# Altium integrated library Altium_WL-SMRW_rev20a.IntLib: 29 symbols
Pins are listed as number, name and electrical type; pins without a type are passive.

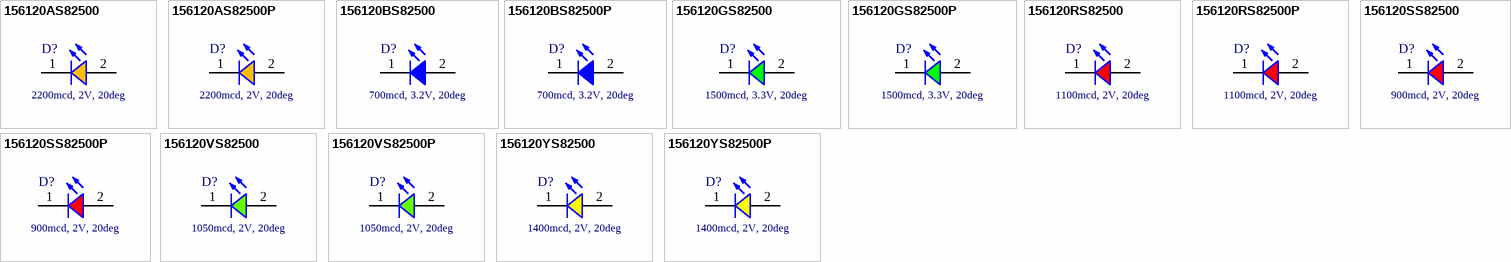
[diagram p0: symbols 156120AS82500 to 156120YS82500P]

## 156120AS82500
designator D?, comment 2200mcd, 2V, 20deg
WL-SMRW SMT Mono-color Reverse mount Waterclear, size 1206, Amber, 2200mcd, 2V, 20deg; Manufacturer Part Number: 156120AS82500; Peak Wavelength typ.: 609nm; Dominant Wavelength typ.: 605nm; Chip Technology: AlInGaP; ComponentLink1Description: Manufacturer; ComponentLink1URL: http://www.we-online.de; ComponentLink2Description: Datasheet; ComponentLink2URL: https://www.we-online.com/catalog/datasheet/156120AS82500.pdf; Published Date: March 2020; Publisher: Wurth Elektronik; Forward Voltage typ.: 2V; Size: 1206; Operating Temperature: -40 to +85degC; Packaging: Tape and Reel; Luminous Intensity typ.: 2200mcd; Emitting Color: Amber; Mounting Technology: SMT; Viewing Angle typ.: 20deg
footprint WL-SMRW_1206_dome_normal use
footprint WL-SMRW_1206_dome_reverse use
pins: 1 K, 2 A

## 156120AS82500P
designator D?, comment 2200mcd, 2V, 20deg
WL-SMRW SMT Mono-color Reverse mount Waterclear, size 1206, Amber, 2200mcd, 2V, 20deg; Manufacturer Part Number: 156120AS82500P; Peak Wavelength typ.: 609nm; Dominant Wavelength typ.: 605nm; Chip Technology: AlInGaP; ComponentLink1Description: Manufacturer; ComponentLink1URL: http://www.we-online.de; ComponentLink2Description: Datasheet; ComponentLink2URL: https://www.we-online.com/catalog/datasheet/156120AS82500P.pdf; Published Date: March 2020; Publisher: Wurth Elektronik; Forward Voltage typ.: 2V; Size: 1206; Operating Temperature: -40 to +85degC; Packaging: Tape and Reel; Luminous Intensity typ.: 2200mcd; Emitting Color: Amber; Mounting Technology: SMT; Viewing Angle typ.: 20deg
footprint WL-SMRW_1206_dome_normal use
footprint WL-SMRW_1206_dome_reverse use
pins: 1 K, 2 A

## 156120BS82500
designator D?, comment 700mcd, 3.2V, 20deg
WL-SMRW SMT Mono-color Reverse mount Waterclear, size 1206, Blue, 700mcd, 3.2V, 20deg; Manufacturer Part Number: 156120BS82500; Peak Wavelength typ.: 465nm; Dominant Wavelength typ.: 470nm; Chip Technology: InGaN; ComponentLink1Description: Manufacturer; ComponentLink1URL: http://www.we-online.de; ComponentLink2Description: Datasheet; ComponentLink2URL: https://www.we-online.com/catalog/datasheet/156120BS82500.pdf; Published Date: March 2020; Publisher: Wurth Elektronik; Forward Voltage typ.: 3.2V; Size: 1206; Operating Temperature: -40 to +85degC; Packaging: Tape and Reel; Luminous Intensity typ.: 700mcd; Emitting Color: Blue; Mounting Technology: SMT; Viewing Angle typ.: 20deg
footprint WL-SMRW_1206_dome_normal use
footprint WL-SMRW_1206_dome_reverse use
pins: 1 K, 2 A

## 156120BS82500P
designator D?, comment 700mcd, 3.2V, 20deg
WL-SMRW SMT Mono-color Reverse mount Waterclear, size 1206, Blue, 700mcd, 3.2V, 20deg; Manufacturer Part Number: 156120BS82500P; Peak Wavelength typ.: 465nm; Dominant Wavelength typ.: 470nm; Chip Technology: InGaN; ComponentLink1Description: Manufacturer; ComponentLink1URL: http://www.we-online.de; ComponentLink2Description: Datasheet; ComponentLink2URL: https://www.we-online.com/catalog/datasheet/156120BS82500P.pdf; Published Date: March 2020; Publisher: Wurth Elektronik; Forward Voltage typ.: 3.2V; Size: 1206; Operating Temperature: -40 to +85degC; Packaging: Tape and Reel; Luminous Intensity typ.: 700mcd; Emitting Color: Blue; Mounting Technology: SMT; Viewing Angle typ.: 20deg
footprint WL-SMRW_1206_dome_normal use
footprint WL-SMRW_1206_dome_reverse use
pins: 1 K, 2 A

## 156120GS82500
designator D?, comment 1500mcd, 3.3V, 20deg
WL-SMRW SMT Mono-color Reverse mount Waterclear, size 1206, Green, 1500mcd, 3.3V, 20deg; Manufacturer Part Number: 156120GS82500; Peak Wavelength typ.: 520nm; Dominant Wavelength typ.: 525nm; Chip Technology: InGaN; ComponentLink1Description: Manufacturer; ComponentLink1URL: http://www.we-online.de; ComponentLink2Description: Datasheet; ComponentLink2URL: https://www.we-online.com/catalog/datasheet/156120GS82500.pdf; Published Date: March 2020; Publisher: Wurth Elektronik; Forward Voltage typ.: 3.3V; Size: 1206; Operating Temperature: -40 to +85degC; Packaging: Tape and Reel; Luminous Intensity typ.: 1500mcd; Emitting Color: Green; Mounting Technology: SMT; Viewing Angle typ.: 20deg
footprint WL-SMRW_1206_dome_normal use
footprint WL-SMRW_1206_dome_reverse use
pins: 1 K, 2 A

## 156120GS82500P
designator D?, comment 1500mcd, 3.3V, 20deg
WL-SMRW SMT Mono-color Reverse mount Waterclear, size 1206, Green, 1500mcd, 3.3V, 20deg; Manufacturer Part Number: 156120GS82500P; Peak Wavelength typ.: 520nm; Dominant Wavelength typ.: 525nm; Chip Technology: InGaN; ComponentLink1Description: Manufacturer; ComponentLink1URL: http://www.we-online.de; ComponentLink2Description: Datasheet; ComponentLink2URL: https://www.we-online.com/catalog/datasheet/156120GS82500P.pdf; Published Date: March 2020; Publisher: Wurth Elektronik; Forward Voltage typ.: 3.3V; Size: 1206; Operating Temperature: -40 to +85degC; Packaging: Tape and Reel; Luminous Intensity typ.: 1500mcd; Emitting Color: Green; Mounting Technology: SMT; Viewing Angle typ.: 20deg
footprint WL-SMRW_1206_dome_normal use
footprint WL-SMRW_1206_dome_reverse use
pins: 1 K, 2 A

## 156120RS82500
designator D?, comment 1100mcd, 2V, 20deg
WL-SMRW SMT Mono-color Reverse mount Waterclear, size 1206, Red, 1100mcd, 2V, 20deg; Manufacturer Part Number: 156120RS82500; Peak Wavelength typ.: 632nm; Dominant Wavelength typ.: 624nm; Chip Technology: AlInGaP; ComponentLink1Description: Manufacturer; ComponentLink1URL: http://www.we-online.de; ComponentLink2Description: Datasheet; ComponentLink2URL: https://www.we-online.com/catalog/datasheet/156120RS82500.pdf; Published Date: March 2020; Publisher: Wurth Elektronik; Forward Voltage typ.: 2V; Size: 1206; Operating Temperature: -40 to +85degC; Packaging: Tape and Reel; Luminous Intensity typ.: 1100mcd; Emitting Color: Red; Mounting Technology: SMT; Viewing Angle typ.: 20deg
footprint WL-SMRW_1206_dome_normal use
footprint WL-SMRW_1206_dome_reverse use
pins: 1 K, 2 A

## 156120RS82500P
designator D?, comment 1100mcd, 2V, 20deg
WL-SMRW SMT Mono-color Reverse mount Waterclear, size 1206, Red, 1100mcd, 2V, 20deg; Manufacturer Part Number: 156120RS82500P; Peak Wavelength typ.: 632nm; Dominant Wavelength typ.: 624nm; Chip Technology: AlInGaP; ComponentLink1Description: Manufacturer; ComponentLink1URL: http://www.we-online.de; ComponentLink2Description: Datasheet; ComponentLink2URL: https://www.we-online.com/catalog/datasheet/156120RS82500P.pdf; Published Date: March 2020; Publisher: Wurth Elektronik; Forward Voltage typ.: 2V; Size: 1206; Operating Temperature: -40 to +85degC; Packaging: Tape and Reel; Luminous Intensity typ.: 1100mcd; Emitting Color: Red; Mounting Technology: SMT; Viewing Angle typ.: 20deg
footprint WL-SMRW_1206_dome_normal use
footprint WL-SMRW_1206_dome_reverse use
pins: 1 K, 2 A

## 156120SS82500
designator D?, comment 900mcd, 2V, 20deg
WL-SMRW SMT Mono-color Reverse mount Waterclear, size 1206, Super Red, 900mcd, 2V, 20deg; Manufacturer Part Number: 156120SS82500; Peak Wavelength typ.: 645nm; Dominant Wavelength typ.: 630nm; Chip Technology: AlInGaP; ComponentLink1Description: Manufacturer; ComponentLink1URL: http://www.we-online.de; ComponentLink2Description: Datasheet; ComponentLink2URL: https://www.we-online.com/catalog/datasheet/156120SS82500.pdf; Published Date: March 2020; Publisher: Wurth Elektronik; Forward Voltage typ.: 2V; Size: 1206; Operating Temperature: -40 to +85degC; Packaging: Tape and Reel; Luminous Intensity typ.: 900mcd; Emitting Color: Super Red; Mounting Technology: SMT; Viewing Angle typ.: 20deg
footprint WL-SMRW_1206_dome_normal use
footprint WL-SMRW_1206_dome_reverse use
pins: 1 K, 2 A

## 156120SS82500P
designator D?, comment 900mcd, 2V, 20deg
WL-SMRW SMT Mono-color Reverse mount Waterclear, size 1206, Super Red, 900mcd, 2V, 20deg; Manufacturer Part Number: 156120SS82500P; Peak Wavelength typ.: 645nm; Dominant Wavelength typ.: 630nm; Chip Technology: AlInGaP; ComponentLink1Description: Manufacturer; ComponentLink1URL: http://www.we-online.de; ComponentLink2Description: Datasheet; ComponentLink2URL: https://www.we-online.com/catalog/datasheet/156120SS82500P.pdf; Published Date: March 2020; Publisher: Wurth Elektronik; Forward Voltage typ.: 2V; Size: 1206; Operating Temperature: -40 to +85degC; Packaging: Tape and Reel; Luminous Intensity typ.: 900mcd; Emitting Color: Super Red; Mounting Technology: SMT; Viewing Angle typ.: 20deg
footprint WL-SMRW_1206_dome_normal use
footprint WL-SMRW_1206_dome_reverse use
pins: 1 K, 2 A

## 156120VS82500
designator D?, comment 1050mcd, 2V, 20deg
WL-SMRW SMT Mono-color Reverse mount Waterclear, size 1206, Bright Green, 1050mcd, 2V, 20deg; Manufacturer Part Number: 156120VS82500; Peak Wavelength typ.: 575nm; Dominant Wavelength typ.: 573nm; Chip Technology: AlInGaP; ComponentLink1Description: Manufacturer; ComponentLink1URL: http://www.we-online.de; ComponentLink2Description: Datasheet; ComponentLink2URL: https://www.we-online.com/catalog/datasheet/156120VS82500.pdf; Published Date: March 2020; Publisher: Wurth Elektronik; Forward Voltage typ.: 2V; Size: 1206; Operating Temperature: -40 to +85degC; Packaging: Tape and Reel; Luminous Intensity typ.: 1050mcd; Emitting Color: Bright Green; Mounting Technology: SMT; Viewing Angle typ.: 20deg
footprint WL-SMRW_1206_dome_normal use
footprint WL-SMRW_1206_dome_reverse use
pins: 1 K, 2 A

## 156120VS82500P
designator D?, comment 1050mcd, 2V, 20deg
WL-SMRW SMT Mono-color Reverse mount Waterclear, size 1206, Bright Green, 1050mcd, 2V, 20deg; Manufacturer Part Number: 156120VS82500P; Peak Wavelength typ.: 575nm; Dominant Wavelength typ.: 573nm; Chip Technology: AlInGaP; ComponentLink1Description: Manufacturer; ComponentLink1URL: http://www.we-online.de; ComponentLink2Description: Datasheet; ComponentLink2URL: https://www.we-online.com/catalog/datasheet/156120VS82500P.pdf; Published Date: March 2020; Publisher: Wurth Elektronik; Forward Voltage typ.: 2V; Size: 1206; Operating Temperature: -40 to +85degC; Packaging: Tape and Reel; Luminous Intensity typ.: 1050mcd; Emitting Color: Bright Green; Mounting Technology: SMT; Viewing Angle typ.: 20deg
footprint WL-SMRW_1206_dome_normal use
footprint WL-SMRW_1206_dome_reverse use
pins: 1 K, 2 A

## 156120YS82500
designator D?, comment 1400mcd, 2V, 20deg
WL-SMRW SMT Mono-color Reverse mount Waterclear, size 1206, Yellow, 1400mcd, 2V, 20deg; Manufacturer Part Number: 156120YS82500; Peak Wavelength typ.: 591nm; Dominant Wavelength typ.: 589nm; Chip Technology: AlInGaP; ComponentLink1Description: Manufacturer; ComponentLink1URL: http://www.we-online.de; ComponentLink2Description: Datasheet; ComponentLink2URL: https://www.we-online.com/catalog/datasheet/156120YS82500.pdf; Published Date: March 2020; Publisher: Wurth Elektronik; Forward Voltage typ.: 2V; Size: 1206; Operating Temperature: -40 to +85degC; Packaging: Tape and Reel; Luminous Intensity typ.: 1400mcd; Emitting Color: Yellow; Mounting Technology: SMT; Viewing Angle typ.: 20deg
footprint WL-SMRW_1206_dome_normal use
footprint WL-SMRW_1206_dome_reverse use
pins: 1 K, 2 A

## 156120YS82500P
designator D?, comment 1400mcd, 2V, 20deg
WL-SMRW SMT Mono-color Reverse mount Waterclear, size 1206, Yellow, 1400mcd, 2V, 20deg; Manufacturer Part Number: 156120YS82500P; Peak Wavelength typ.: 591nm; Dominant Wavelength typ.: 589nm; Chip Technology: AlInGaP; ComponentLink1Description: Manufacturer; ComponentLink1URL: http://www.we-online.de; ComponentLink2Description: Datasheet; ComponentLink2URL: https://www.we-online.com/catalog/datasheet/156120YS82500P.pdf; Published Date: March 2020; Publisher: Wurth Elektronik; Forward Voltage typ.: 2V; Size: 1206; Operating Temperature: -40 to +85degC; Packaging: Tape and Reel; Luminous Intensity typ.: 1400mcd; Emitting Color: Yellow; Mounting Technology: SMT; Viewing Angle typ.: 20deg
footprint WL-SMRW_1206_dome_normal use
footprint WL-SMRW_1206_dome_reverse use
pins: 1 K, 2 A


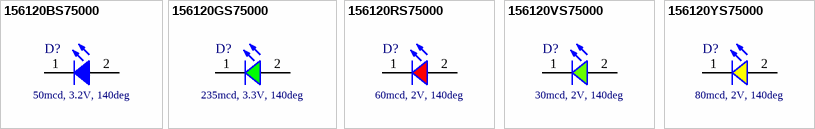
[diagram p1: symbols 156120BS75000 to 156120YS75000]

## 156120BS75000
designator D?, comment 50mcd, 3.2V, 140deg
WL-SMRW SMT Mono-color Reverse mount Waterclear, size 1206, Blue, 50mcd, 3.2V, 140deg; Manufacturer Part Number: 156120BS75000; Peak Wavelength typ.: 465nm; Dominant Wavelength typ.: 470nm; Chip Technology: InGaN; ComponentLink1Description: Manufacturer; ComponentLink1URL: http://www.we-online.de; ComponentLink2Description: Datasheet; ComponentLink2URL: https://www.we-online.com/catalog/datasheet/156120BS75000.pdf; Published Date: March 2020; Publisher: Wurth Elektronik; Forward Voltage typ.: 3.2V; Size: 1206; Operating Temperature: -40 to +85degC; Packaging: Tape and Reel; Luminous Intensity typ.: 50mcd; Emitting Color: Blue; Mounting Technology: SMT; Viewing Angle typ.: 140deg
footprint WL-SMRW_1206_rectangular_normal use
footprint WL-SMRW_1206_rectangular_reverse use
pins: 1 K, 2 A

## 156120GS75000
designator D?, comment 235mcd, 3.3V, 140deg
WL-SMRW SMT Mono-color Reverse mount Waterclear, size 1206, Green, 235mcd, 3.3V, 140deg; Manufacturer Part Number: 156120GS75000; Peak Wavelength typ.: 520nm; Dominant Wavelength typ.: 525nm; Chip Technology: InGaN; ComponentLink1Description: Manufacturer; ComponentLink1URL: http://www.we-online.de; ComponentLink2Description: Datasheet; ComponentLink2URL: https://www.we-online.com/catalog/datasheet/156120GS75000.pdf; Published Date: March 2020; Publisher: Wurth Elektronik; Forward Voltage typ.: 3.3V; Size: 1206; Operating Temperature: -40 to +85degC; Packaging: Tape and Reel; Luminous Intensity typ.: 235mcd; Emitting Color: Green; Mounting Technology: SMT; Viewing Angle typ.: 140deg
footprint WL-SMRW_1206_rectangular_normal use
footprint WL-SMRW_1206_rectangular_reverse use
pins: 1 K, 2 A

## 156120RS75000
designator D?, comment 60mcd, 2V, 140deg
WL-SMRW SMT Mono-color Reverse mount Waterclear, size 1206, Red, 60mcd, 2V, 140deg; Manufacturer Part Number: 156120RS75000; Peak Wavelength typ.: 632nm; Dominant Wavelength typ.: 624nm; Chip Technology: AlInGaP; ComponentLink1Description: Manufacturer; ComponentLink1URL: http://www.we-online.de; ComponentLink2Description: Datasheet; ComponentLink2URL: https://www.we-online.com/catalog/datasheet/156120RS75000.pdf; Published Date: March 2020; Publisher: Wurth Elektronik; Forward Voltage typ.: 2V; Size: 1206; Operating Temperature: -40 to +85degC; Packaging: Tape and Reel; Luminous Intensity typ.: 60mcd; Emitting Color: Red; Mounting Technology: SMT; Viewing Angle typ.: 140deg
footprint WL-SMRW_1206_rectangular_normal use
footprint WL-SMRW_1206_rectangular_reverse use
pins: 1 K, 2 A

## 156120VS75000
designator D?, comment 30mcd, 2V, 140deg
WL-SMRW SMT Mono-color Reverse mount Waterclear, size 1206, Bright Green, 30mcd, 2V, 140deg; Manufacturer Part Number: 156120VS75000; Peak Wavelength typ.: 575nm; Dominant Wavelength typ.: 573nm; Chip Technology: AlInGaP; ComponentLink1Description: Manufacturer; ComponentLink1URL: http://www.we-online.de; ComponentLink2Description: Datasheet; ComponentLink2URL: https://www.we-online.com/catalog/datasheet/156120VS75000.pdf; Published Date: March 2020; Publisher: Wurth Elektronik; Forward Voltage typ.: 2V; Size: 1206; Operating Temperature: -40 to +85degC; Packaging: Tape and Reel; Luminous Intensity typ.: 30mcd; Emitting Color: Bright Green; Mounting Technology: SMT; Viewing Angle typ.: 140deg
footprint WL-SMRW_1206_rectangular_normal use
footprint WL-SMRW_1206_rectangular_reverse use
pins: 1 K, 2 A

## 156120YS75000
designator D?, comment 80mcd, 2V, 140deg
WL-SMRW SMT Mono-color Reverse mount Waterclear, size 1206, Yellow, 80mcd, 2V, 140deg; Manufacturer Part Number: 156120YS75000; Peak Wavelength typ.: 592nm; Dominant Wavelength typ.: 589nm; Chip Technology: AlInGaP; ComponentLink1Description: Manufacturer; ComponentLink1URL: http://www.we-online.de; ComponentLink2Description: Datasheet; ComponentLink2URL: https://www.we-online.com/catalog/datasheet/156120YS75000.pdf; Published Date: March 2020; Publisher: Wurth Elektronik; Forward Voltage typ.: 2V; Size: 1206; Operating Temperature: -40 to +85degC; Packaging: Tape and Reel; Luminous Intensity typ.: 80mcd; Emitting Color: Yellow; Mounting Technology: SMT; Viewing Angle typ.: 140deg
footprint WL-SMRW_1206_rectangular_normal use
footprint WL-SMRW_1206_rectangular_reverse use
pins: 1 K, 2 A


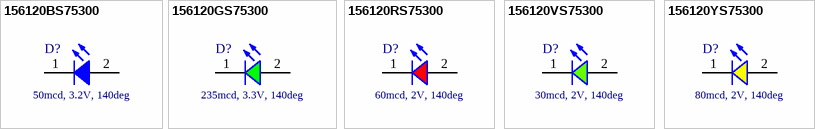
[diagram p2: symbols 156120BS75300 to 156120YS75300]

## 156120BS75300
designator D?, comment 50mcd, 3.2V, 140deg
WL-SMRW SMT Mono-color Reverse mount Waterclear, size 1206, Blue, 50mcd, 3.2V, 140deg; Manufacturer Part Number: 156120BS75300; Peak Wavelength typ.: 465nm; Dominant Wavelength typ.: 470nm; Chip Technology: InGaN; ComponentLink1Description: Manufacturer; ComponentLink1URL: http://www.we-online.de; ComponentLink2Description: Datasheet; ComponentLink2URL: https://www.we-online.com/catalog/datasheet/156120BS75300.pdf; Published Date: March 2020; Publisher: Wurth Elektronik; Forward Voltage typ.: 3.2V; Size: 1206; Operating Temperature: -40 to +85degC; Packaging: Tape and Reel; Luminous Intensity typ.: 50mcd; Emitting Color: Blue; Mounting Technology: SMT; Viewing Angle typ.: 140deg
footprint WL-SMRW_1206_cylindrical_normal use
footprint WL-SMRW_1206_cylindrical_reverse use
pins: 1 K, 2 A

## 156120GS75300
designator D?, comment 235mcd, 3.3V, 140deg
WL-SMRW SMT Mono-color Reverse mount Waterclear, size 1206, Green, 235mcd, 3.3V, 140deg; Manufacturer Part Number: 156120GS75300; Peak Wavelength typ.: 520nm; Dominant Wavelength typ.: 525nm; Chip Technology: InGaN; ComponentLink1Description: Manufacturer; ComponentLink1URL: http://www.we-online.de; ComponentLink2Description: Datasheet; ComponentLink2URL: https://www.we-online.com/catalog/datasheet/156120GS75300.pdf; Published Date: March 2020; Publisher: Wurth Elektronik; Forward Voltage typ.: 3.3V; Size: 1206; Operating Temperature: -40 to +85degC; Packaging: Tape and Reel; Luminous Intensity typ.: 235mcd; Emitting Color: Green; Mounting Technology: SMT; Viewing Angle typ.: 140deg
footprint WL-SMRW_1206_cylindrical_normal use
footprint WL-SMRW_1206_cylindrical_reverse use
pins: 1 K, 2 A

## 156120RS75300
designator D?, comment 60mcd, 2V, 140deg
WL-SMRW SMT Mono-color Reverse mount Waterclear, size 1206, Red, 60mcd, 2V, 140deg; Manufacturer Part Number: 156120RS75300; Peak Wavelength typ.: 632nm; Dominant Wavelength typ.: 624nm; Chip Technology: AlInGaP; ComponentLink1Description: Manufacturer; ComponentLink1URL: http://www.we-online.de; ComponentLink2Description: Datasheet; ComponentLink2URL: https://www.we-online.com/catalog/datasheet/156120RS75300.pdf; Published Date: March 2020; Publisher: Wurth Elektronik; Forward Voltage typ.: 2V; Size: 1206; Operating Temperature: -40 to +85degC; Packaging: Tape and Reel; Luminous Intensity typ.: 60mcd; Emitting Color: Red; Mounting Technology: SMT; Viewing Angle typ.: 140deg
footprint WL-SMRW_1206_cylindrical_normal use
footprint WL-SMRW_1206_cylindrical_reverse use
pins: 1 K, 2 A

## 156120VS75300
designator D?, comment 30mcd, 2V, 140deg
WL-SMRW SMT Mono-color Reverse mount Waterclear, size 1206, Bright Green, 30mcd, 2V, 140deg; Manufacturer Part Number: 156120VS75300; Peak Wavelength typ.: 575nm; Dominant Wavelength typ.: 573nm; Chip Technology: AlInGaP; ComponentLink1Description: Manufacturer; ComponentLink1URL: http://www.we-online.de; ComponentLink2Description: Datasheet; ComponentLink2URL: https://www.we-online.com/catalog/datasheet/156120VS75300.pdf; Published Date: March 2020; Publisher: Wurth Elektronik; Forward Voltage typ.: 2V; Size: 1206; Operating Temperature: -40 to +85degC; Packaging: Tape and Reel; Luminous Intensity typ.: 30mcd; Emitting Color: Bright Green; Mounting Technology: SMT; Viewing Angle typ.: 140deg
footprint WL-SMRW_1206_cylindrical_normal use
footprint WL-SMRW_1206_cylindrical_reverse use
pins: 1 K, 2 A

## 156120YS75300
designator D?, comment 80mcd, 2V, 140deg
WL-SMRW SMT Mono-color Reverse mount Waterclear, size 1206, Yellow, 80mcd, 2V, 140deg; Manufacturer Part Number: 156120YS75300; Peak Wavelength typ.: 592nm; Dominant Wavelength typ.: 589nm; Chip Technology: AlInGaP; ComponentLink1Description: Manufacturer; ComponentLink1URL: http://www.we-online.de; ComponentLink2Description: Datasheet; ComponentLink2URL: https://www.we-online.com/catalog/datasheet/156120YS75300.pdf; Published Date: March 2020; Publisher: Wurth Elektronik; Forward Voltage typ.: 2V; Size: 1206; Operating Temperature: -40 to +85degC; Packaging: Tape and Reel; Luminous Intensity typ.: 80mcd; Emitting Color: Yellow; Mounting Technology: SMT; Viewing Angle typ.: 140deg
footprint WL-SMRW_1206_cylindrical_normal use
footprint WL-SMRW_1206_cylindrical_reverse use
pins: 1 K, 2 A


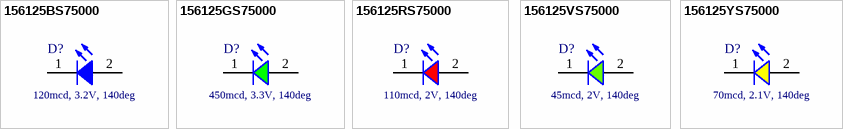
[diagram p3: symbols 156125BS75000 to 156125YS75000]

## 156125BS75000
designator D?, comment 120mcd, 3.2V, 140deg
WL-SMRW SMT Mono-color Reverse mount Waterclear, size 1205, Blue, 120mcd, 3.2V, 140deg; Manufacturer Part Number: 156125BS75000; Peak Wavelength typ.: 465nm; Dominant Wavelength typ.: 470nm; Chip Technology: InGaN; ComponentLink1Description: Manufacturer; ComponentLink1URL: http://www.we-online.de; ComponentLink2Description: Datasheet; ComponentLink2URL: https://www.we-online.com/catalog/datasheet/156125BS75000.pdf; Published Date: March 2020; Publisher: Wurth Elektronik; Forward Voltage typ.: 3.2V; Size: 1205; Operating Temperature: -40 to +85degC; Packaging: Tape and Reel; Luminous Intensity typ.: 120mcd; Emitting Color: Blue; Mounting Technology: SMT; Viewing Angle typ.: 140deg
footprint WL-SMRW_1205_normal use
footprint WL-SMRW_1205_reverse use
pins: 1 K, 2 A

## 156125GS75000
designator D?, comment 450mcd, 3.3V, 140deg
WL-SMRW SMT Mono-color Reverse mount Waterclear, size 1205, Green, 450mcd, 3.3V, 140deg; Manufacturer Part Number: 156125GS75000; Peak Wavelength typ.: 520nm; Dominant Wavelength typ.: 525nm; Chip Technology: InGaN; ComponentLink1Description: Manufacturer; ComponentLink1URL: http://www.we-online.de; ComponentLink2Description: Datasheet; ComponentLink2URL: https://www.we-online.com/catalog/datasheet/156125GS75000.pdf; Published Date: March 2020; Publisher: Wurth Elektronik; Forward Voltage typ.: 3.3V; Size: 1205; Operating Temperature: -40 to +85degC; Packaging: Tape and Reel; Luminous Intensity typ.: 450mcd; Emitting Color: Green; Mounting Technology: SMT; Viewing Angle typ.: 140deg
footprint WL-SMRW_1205_normal use
footprint WL-SMRW_1205_reverse use
pins: 1 K, 2 A

## 156125RS75000
designator D?, comment 110mcd, 2V, 140deg
WL-SMRW SMT Mono-color Reverse mount Waterclear, size 1205, Red, 110mcd, 2V, 140deg; Manufacturer Part Number: 156125RS75000; Peak Wavelength typ.: 632nm; Dominant Wavelength typ.: 624nm; Chip Technology: AlInGaP; ComponentLink1Description: Manufacturer; ComponentLink1URL: http://www.we-online.de; ComponentLink2Description: Datasheet; ComponentLink2URL: https://www.we-online.com/catalog/datasheet/156125RS75000.pdf; Published Date: March 2020; Publisher: Wurth Elektronik; Forward Voltage typ.: 2V; Size: 1205; Operating Temperature: -40 to +85degC; Packaging: Tape and Reel; Luminous Intensity typ.: 110mcd; Emitting Color: Red; Mounting Technology: SMT; Viewing Angle typ.: 140deg
footprint WL-SMRW_1205_normal use
footprint WL-SMRW_1205_reverse use
pins: 1 K, 2 A

## 156125VS75000
designator D?, comment 45mcd, 2V, 140deg
WL-SMRW SMT Mono-color Reverse mount Waterclear, size 1205, Bright Green, 45mcd, 2V, 140deg; Manufacturer Part Number: 156125VS75000; Peak Wavelength typ.: 575nm; Dominant Wavelength typ.: 573nm; Chip Technology: AlInGaP; ComponentLink1Description: Manufacturer; ComponentLink1URL: http://www.we-online.de; ComponentLink2Description: Datasheet; ComponentLink2URL: https://www.we-online.com/catalog/datasheet/156125VS75000.pdf; Published Date: March 2020; Publisher: Wurth Elektronik; Forward Voltage typ.: 2V; Size: 1205; Operating Temperature: -40 to +85degC; Packaging: Tape and Reel; Luminous Intensity typ.: 45mcd; Emitting Color: Bright Green; Mounting Technology: SMT; Viewing Angle typ.: 140deg
footprint WL-SMRW_1205_normal use
footprint WL-SMRW_1205_reverse use
pins: 1 K, 2 A

## 156125YS75000
designator D?, comment 70mcd, 2.1V, 140deg
WL-SMRW SMT Mono-color Reverse mount Waterclear, size 1205, Yellow, 70mcd, 2.1V, 140deg; Manufacturer Part Number: 156125YS75000; Peak Wavelength typ.: 591nm; Dominant Wavelength typ.: 589nm; Chip Technology: AlInGaP; ComponentLink1Description: Manufacturer; ComponentLink1URL: http://www.we-online.de; ComponentLink2Description: Datasheet; ComponentLink2URL: https://www.we-online.com/catalog/datasheet/156125YS75000.pdf; Published Date: March 2020; Publisher: Wurth Elektronik; Forward Voltage typ.: 2.1V; Size: 1205; Operating Temperature: -40 to +85degC; Packaging: Tape and Reel; Luminous Intensity typ.: 70mcd; Emitting Color: Yellow; Mounting Technology: SMT; Viewing Angle typ.: 140deg
footprint WL-SMRW_1205_normal use
footprint WL-SMRW_1205_reverse use
pins: 1 K, 2 A